# Altium schematic symbol library EMDC_Optocouplers.SchLib: 6 symbols
Pins are listed as number, name and electrical type; pins without a type are passive.

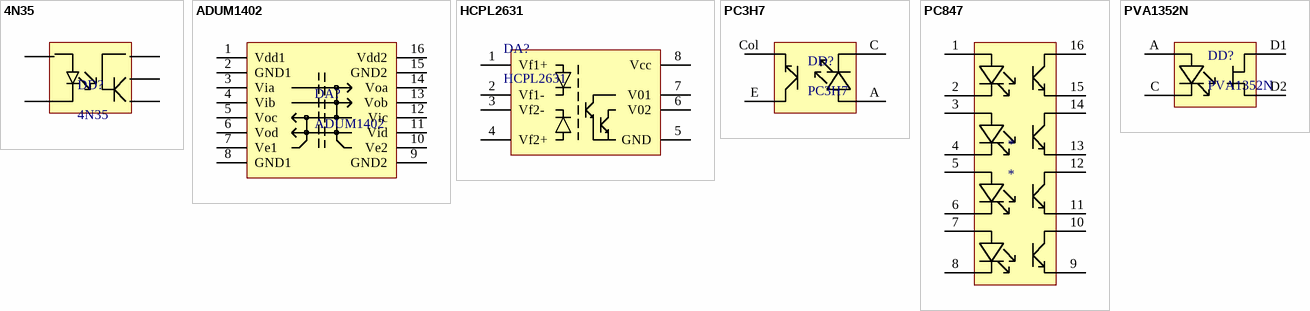
[diagram p0: symbols 4N35 to PVA1352N]

## 4N35
designator DD?
SMD optocoupler
footprint 4N35
footprint DIP-6
pins: 1 VREF, 2 VREF, 4 VREF, 5 VREF, 6 VREF

## ADUM1402
designator DA?
SMD couple
footprint SOIC-16W
pins: 1 Vdd1, 2 GND1, 3 Via, 4 Vib, 5 Voc, 6 Vod, 7 Ve1, 8 GND1, 9 GND2, 10 Ve2, 11 Vid, 12 Vic, 13 Vob, 14 Voa, 15 GND2, 16 Vdd2

## HCPL2631
designator DA?
SMD optocoupler with logic level output
footprint SMD-8 (Package for SMD optocouplers)
pins: 1 Vf1+, 2 Vf1-, 3 Vf2-, 4 Vf2+, 5 GND, 6 V02, 7 V01, 8 Vcc

## PC3H7
designator DD?
optron 1x
footprint PC3H7
pins: A Andoe, C Cathode, Col Collector, E Emitter

## PC847
designator *
optron 4x
footprint DIP-16
pins: 1 A1, 2 C1, 3 A2, 4 C2, 5 A3, 6 C3, 7 A4, 8 C4, 9 Col4, 10 E4, 11 Col3, 12 E3, 13 Col2, 14 E2, 15 Col1, 16 E1

## PVA1352N
designator DD?
optron 1x (AC/DC)
footprint PVA1352N
pins: A Andoe, C Cathode, D1 Drain, D2 Drain